# Altium integrated library Diode.IntLib: 67 symbols
Pins are listed as number, name and electrical type; pins without a type are passive.

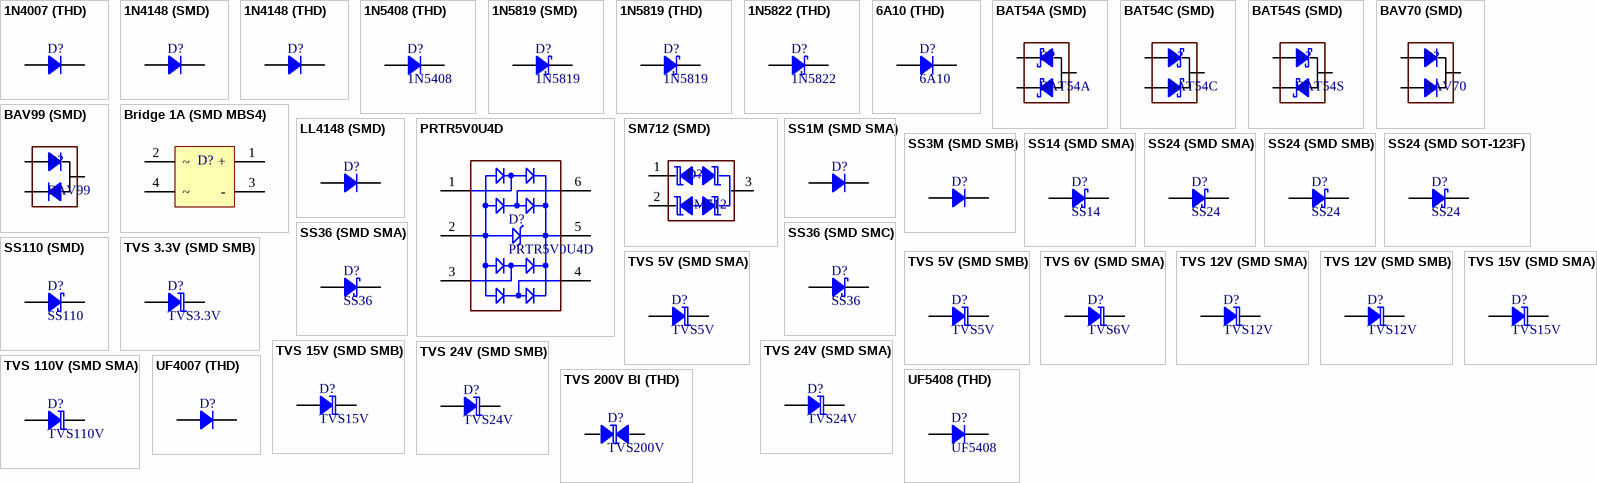
[diagram p0: symbols 1N4007 (THD) to UF5408 (THD)]

## 1N4007 (THD)
designator D?, comment 1N4007  (value not drawn)
Diode Standard 1000V 1A Through Hole DO-204AL (DO-41); PartNumber: 1N4007
footprint DO41 P7.5MM (1N4007)
footprint DO41 P10MM (1N4007)
footprint DO41 STAND P2.5MM (1N4007)
pins: 1, 2

## 1N4148 (SMD)
designator D?, comment 1N4148  (value not drawn)
Diode Standard 75V 200mA Surface Mount SOD-523F; PartNumber: 1N4148WT
footprint SOD-523F (SODFL, 2-Leads, Body 0.80x1.60mm, IPC Medium Density)
pins: 1, 2

## 1N4148 (THD)
designator D?, comment 1N4148  (value not drawn)
Diode Standard 100V 200mA Through Hole DO-35; PartNumber: 1N4148
footprint DO35 P7.5MM (1N4148)
footprint DO35 P5MM (1N4148)
footprint DO35 STAND P2.5MM (1N4148)
pins: 1, 2

## 1N5408 (THD)
designator D?, comment 1N5408
Diode Standard 1000V 3A Through Hole DO-201AD; PartNumber: 1N5408G-T
footprint DO201 P15MM (1N5408)
footprint DO201 P18MM (1N5408)
footprint DO201 STAND P6.5MM (1N5408 and ...)
pins: 1, 2

## 1N5819 (SMD)
designator D?, comment 1N5819
Diode Schottky 40V 1A Surface Mount SOD-123  Speed Fast Recovery =< 500ns, > 200mA (Io); PartNumber: 1N5819HW-7-F
footprint SOD-123 (SOD, 2-Leads, Body 1.55x3.70mm, IPC Medium Density)
pins: 1, 2

## 1N5819 (THD)
designator D?, comment 1N5819
Diode Schottky 40V 1A Through Hole DO-204AL (DO-41) Speed Fast Recovery =< 500ns, > 200mA (Io); PartNumber: 1N5819-E3/54
footprint DO41 P7.5MM (1N4007)
footprint DO41 P10MM (1N4007)
footprint DO41 STAND P2.5MM (1N4007)
pins: 1, 2

## 1N5822 (THD)
designator D?, comment 1N5822
Diode Schottky 40V 3A Through Hole DO-201AD; PartNumber: 1N5822-E3/54
footprint DO201 P15MM (1N5408)
footprint DO201 P18MM (1N5408)
footprint DO201 STAND P6.5MM (1N5408 and ...)
pins: 1, 2

## 6A10 (THD)
designator D?, comment 6A10
Diode Standard 1000V 6A Through Hole R-6; PartNumber: 6A10
footprint R6 (6A10 and ...)
footprint R6 STAND (6A10 and ...)
pins: 1, 2

## BAT54A (SMD)
designator D?, comment BAT54A
Diode Array 1 Pair Series Connection Schottky 30V 200mA Surface Mount TO-236-3, SC-59, SOT-23-3; PartNumber: BAT54A
footprint SOT-23-3 2.9X2.4MM P0.95MM (SOT23, 3-Leads, Body 2.90x2.40mm, Pitch 0.95mm, IPC Medium Density)
pins: 1, 2, 3

## BAT54C (SMD)
designator D?, comment BAT54C
Diode Array 1 Pair Series Connection Schottky 30V 200mA Surface Mount TO-236-3, SC-59, SOT-23-3; PartNumber: BAT54C
footprint SOT-23-3 2.9X2.4MM P0.95MM (SOT23, 3-Leads, Body 2.90x2.40mm, Pitch 0.95mm, IPC Medium Density)
pins: 1, 2, 3

## BAT54S (SMD)
designator D?, comment BAT54S
Diode Array 1 Pair Series Connection Schottky 30V 200mA Surface Mount TO-236-3, SC-59, SOT-23-3; PartNumber: BAT54S
footprint SOT-23-3 2.9X2.4MM P0.95MM (SOT23, 3-Leads, Body 2.90x2.40mm, Pitch 0.95mm, IPC Medium Density)
pins: 1, 2, 3

## BAV70 (SMD)
designator D?, comment BAV70
Diode Array 1 Pair Common Cathode Standard 70V 200mA Surface Mount TO-236-3, SC-59, SOT-23-3; PartNumber: BAV70
footprint SOT-23-3 2.9X2.4MM P0.95MM (SOT23, 3-Leads, Body 2.90x2.40mm, Pitch 0.95mm, IPC Medium Density)
pins: 1, 2, 3

## BAV99 (SMD)
designator D?, comment BAV99
Diode Array 1 Pair Series Connection Standard 70V 200mA Surface Mount TO-236-3, SC-59, SOT-23-3; PartNumber: BAV99
footprint SOT-23-3 2.9X2.4MM P0.95MM (SOT23, 3-Leads, Body 2.90x2.40mm, Pitch 0.95mm, IPC Medium Density)
pins: 1, 2, 3

## Bridge 1A (SMD MBS4)
designator D?
Bridge Rectifiers 0.8A 800V MBS; PartNumber: MB8S-G
footprint DBRG_MBS
pins: 1 +, 2 ~, 3 -, 4 ~

## LL4148 (SMD)
designator D?, comment LL4148  (value not drawn)
Diode Standard 100V 200mA Surface Mount SOD-80; PartNumber: LL4148
footprint SOD-80 (SOD-80 MINI-MELF 3.6X1.6mm, LL-34, LL4148)
pins: 1, 2

## PRTR5V0U4D
designator D?
Clamp  Ipp Tvs Diode Surface Mount 6-TSOP; PartNumber: PRTR5V0U4D,125
footprint SOT-23-6 2.9X2.8MM P0.95MM (SOT23, 6-Leads, Body 2.90x2.80mm, Pitch 0.95mm, IPC Medium Density)
pins: 1 I/O 1, 2 GND, 3 I/O 2, 4 I/O 3, 5 VBUS, 6 I/O 4

## SM712 (SMD)
designator D?, comment SM712
31V, 19V Clamp 19A (8/20µs) Ipp Tvs Diode Surface Mount SOT-23-3; PartNumber: SM712-02HTG
footprint SOT-23-3 2.9X2.4MM P0.95MM (SOT23, 3-Leads, Body 2.90x2.40mm, Pitch 0.95mm, IPC Medium Density)
pins: 1, 2, 3

## SS1M (SMD SMA)
designator D?, comment SS1M  (value not drawn)
Diode Fast 1000V 1A SMB; PartNumber: SS1M
footprint DO-214AC SMA (Molded Diode, 2-Leads, Body 4.30x2.60mm, IPC Medium Density)
pins: 1, 2

## SS3M (SMD SMB)
designator D?, comment SS3M  (value not drawn)
Diode Fast 1000V 3A SMB; PartNumber: SS3M
footprint DO-214AA SMB (Molded Diode, 2-Leads, Body 4.31x3.62mm, IPC Medium Density)
pins: 1, 2

## SS14 (SMD SMA)
designator D?, comment SS14
Diode Schottky 40V 1A Surface Mount SMA (DO-214AC); PartNumber: SS14
footprint DO-214AC SMA (Molded Diode, 2-Leads, Body 4.30x2.60mm, IPC Medium Density)
pins: 1, 2

## SS24 (SMD SMA)
designator D?, comment SS24
Diode Schottky 40V 2A Surface Mount DO-214AC (SMA); PartNumber: SS24S-E3/61T
footprint DO-214AC SMA (Molded Diode, 2-Leads, Body 4.30x2.60mm, IPC Medium Density)
pins: 1, 2

## SS24 (SMD SMB)
designator D?, comment SS24
Diode Schottky 40V 2A Surface Mount DO-214AA (SMB); PartNumber: SS24
footprint DO-214AA SMB (Molded Diode, 2-Leads, Body 4.31x3.62mm, IPC Medium Density)
pins: 1, 2

## SS24 (SMD SOT-123F)
designator D?, comment SS24
Diode Schottky 40V 2A Surface Mount SOD-123F; PartNumber: SS24FL
footprint SOD-123F (SODFL, 2-Leads, Body 1.60x3.50mm, IPC Medium Density)
pins: 1, 2

## SS36 (SMD SMA)
designator D?, comment SS36
Diode Schottky 60V 3A Surface Mount DO-214AC (SMA); PartNumber: SS36-HF
footprint DO-214AC SMA (Molded Diode, 2-Leads, Body 4.30x2.60mm, IPC Medium Density)
pins: 1, 2

## SS36 (SMD SMC)
designator D?, comment SS36
Diode Schottky 60V 3A Surface Mount DO-214AB (SMC); PartNumber: SS36-E3/57T
footprint DO-214AB SMC (Molded Diode, 2-Leads, Body 6.85x5.90mm, IPC Medium Density)
pins: 1, 2

## SS110 (SMD)
designator D?, comment SS110
Diode Schottky 100V 1A Surface Mount DO-214AC (SMA); PartNumber: SS110-TP
footprint DO-214AC SMA (Molded Diode, 2-Leads, Body 4.30x2.60mm, IPC Medium Density)
pins: 1, 2

## TVS 3.3V (SMD SMB)
designator D?, comment TVS3.3V
10.3V Clamp 200A (8/20µs) Ipp Tvs Diode Surface Mount DO-214AA (SMBJ); PartNumber: SMBJ3V3-E3/52
footprint DO-214AA SMB (Molded Diode, 2-Leads, Body 4.31x3.62mm, IPC Medium Density)
pins: 1, 2

## TVS 5V (SMD SMA)
designator D?, comment TVS5V
9.2V Clamp 43.5A Ipp Tvs Diode Surface Mount DO-214AC (SMA); PartNumber: SMAJ5.0A
footprint DO-214AC SMA (Molded Diode, 2-Leads, Body 4.30x2.60mm, IPC Medium Density)
pins: 1, 2

## TVS 5V (SMD SMB)
designator D?, comment TVS5V
9.2V Clamp 65.3A Ipp Tvs Diode Surface Mount DO-214AA (SMBJ); PartNumber: SMBJ5.0A
footprint DO-214AA SMB (Molded Diode, 2-Leads, Body 4.31x3.62mm, IPC Medium Density)
pins: 1, 2

## TVS 6V (SMD SMA)
designator D?, comment TVS6V
10.3V Clamp 38.8A Ipp Tvs Diode Surface Mount DO-214AC (SMA); PartNumber: SMAJ6.0A
footprint DO-214AC SMA (Molded Diode, 2-Leads, Body 4.30x2.60mm, IPC Medium Density)
pins: 1, 2

## TVS 12V (SMD SMA)
designator D?, comment TVS12V
19.9V Clamp 20.1A Ipp Tvs Diode Surface Mount DO-214AC (SMA); PartNumber: SMAJ12A
footprint DO-214AC SMA (Molded Diode, 2-Leads, Body 4.30x2.60mm, IPC Medium Density)
pins: 1, 2

## TVS 12V (SMD SMB)
designator D?, comment TVS12V
19.9V Clamp 30.2A Ipp Tvs Diode Surface Mount DO-214AA (SMBJ); PartNumber: SMBJ12CA
footprint DO-214AA SMB (Molded Diode, 2-Leads, Body 4.31x3.62mm, IPC Medium Density)
pins: 1, 2

## TVS 15V (SMD SMA)
designator D?, comment TVS15V
24.4V Clamp 16.4A Ipp Tvs Diode Surface Mount DO-214AC (SMA); PartNumber: SMAJ15A
footprint DO-214AC SMA (Molded Diode, 2-Leads, Body 4.30x2.60mm, IPC Medium Density)
pins: 1, 2

## TVS 15V (SMD SMB)
designator D?, comment TVS15V
24.4V Clamp 24.6A Ipp Tvs Diode Surface Mount DO-214AA (SMBJ); PartNumber: SMBJ15A
footprint DO-214AA SMB (Molded Diode, 2-Leads, Body 4.31x3.62mm, IPC Medium Density)
pins: 1, 2

## TVS 24V (SMD SMA)
designator D?, comment TVS24V
38.9V Clamp 10.3A Ipp Tvs Diode Surface Mount DO-214AC (SMA); PartNumber: SMAJ24A
footprint DO-214AC SMA (Molded Diode, 2-Leads, Body 4.30x2.60mm, IPC Medium Density)
pins: 1, 2

## TVS 24V (SMD SMB)
designator D?, comment TVS24V
38.9V Clamp 15.5A Ipp Tvs Diode Surface Mount DO-214AA (SMBJ); PartNumber: SMBJ24A
footprint DO-214AA SMB (Molded Diode, 2-Leads, Body 4.31x3.62mm, IPC Medium Density)
pins: 1, 2

## TVS 110V (SMD SMA)
designator D?, comment TVS110V
tvs 110v; PartNumber: SZ1SMA110AT3G
footprint DO-214AC SMA (Molded Diode, 2-Leads, Body 4.30x2.60mm, IPC Medium Density)
pins: 1, 2

## TVS 200V BI (THD)
designator D?, comment TVS200V
275V Clamp 2.2A Ipp Tvs Diode; PartNumber: P6KE200CA
footprint DO15 P12.75MM
pins: 1, 2

## UF4007 (THD)
designator D?, comment UF4007  (value not drawn)
Diode Standard 1000V 1A Through Hole DO-204AL (DO-41); PartNumber: UF4007
footprint DO41 P7.5MM (1N4007)
footprint DO41 P10MM (1N4007)
footprint DO41 STAND P2.5MM (1N4007)
pins: 1, 2

## UF5408 (THD)
designator D?, comment UF5408
Diode Standard 1000V 3A Through Hole DO-201AD Reverse Recovery Time (trr) 75ns; PartNumber: UF5408-E3/54
footprint DO201 P15MM (1N5408)
footprint DO201 P18MM (1N5408)
footprint DO201 STAND P6.5MM (1N5408 and ...)
pins: 1, 2

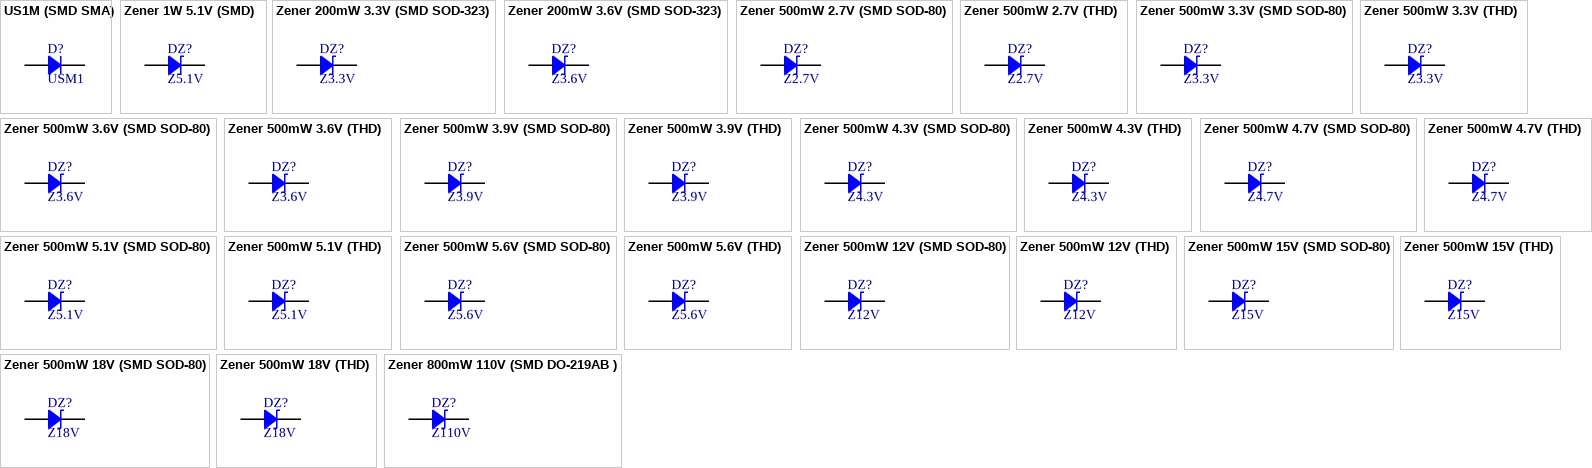
[diagram p1: symbols US1M (SMD SMA) to Zener 800mW 110V (SMD DO-219AB )]

## US1M (SMD SMA)
designator D?, comment USM1
Diode Standard 1000V 1A Surface Mount SMA; PartNumber: US1M-13-F
footprint DO-214AC SMA (Molded Diode, 2-Leads, Body 4.30x2.60mm, IPC Medium Density)
pins: 1, 2

## Zener 1W 5.1V (SMD)
designator DZ?, comment Z5.1V
Zener Diode; PartNumber: ZMY5V1-GS08
footprint SOD-80 (SOD-80 MINI-MELF 3.6X1.6mm, LL-34, LL4148)
pins: 1, 2

## Zener 200mW 3.3V (SMD SOD-323)
designator DZ?, comment Z3.3V
Zener Diode; PartNumber: BZX384B3V3-G
footprint SOD-323 (SOD, 2-Leads, Body 1.25x2.50mm, IPC Medium Density)
pins: 1, 2

## Zener 200mW 3.6V (SMD SOD-323)
designator DZ?, comment Z3.6V
Zener Diode; PartNumber: BZX384B3V6-G
footprint SOD-323 (SOD, 2-Leads, Body 1.25x2.50mm, IPC Medium Density)
pins: 1, 2

## Zener 500mW 2.7V (SMD SOD-80)
designator DZ?, comment Z2.7V
Zener Diode; PartNumber: TZMC2V7-GS08
footprint SOD-80 (SOD-80 MINI-MELF 3.6X1.6mm, LL-34, LL4148)
pins: 1, 2

## Zener 500mW 2.7V (THD)
designator DZ?, comment Z2.7V
Zener Diode 500mW ±6% Through Hole DO-35; PartNumber: BZX55C2V7-TR
footprint DO35 P5MM (1N4148)
footprint DO35 P7.5MM (1N4148)
footprint DO35 STAND P2.5MM (1N4148)
pins: 1, 2

## Zener 500mW 3.3V (SMD SOD-80)
designator DZ?, comment Z3.3V
Zener Diode; PartNumber: TZMC3V3-GS08
footprint SOD-80 (SOD-80 MINI-MELF 3.6X1.6mm, LL-34, LL4148)
pins: 1, 2

## Zener 500mW 3.3V (THD)
designator DZ?, comment Z3.3V
Zener Diode 500mW ±6% Through Hole DO-35; PartNumber: BZX55C3V3-TR
footprint DO35 P5MM (1N4148)
footprint DO35 P7.5MM (1N4148)
footprint DO35 STAND P2.5MM (1N4148)
pins: 1, 2

## Zener 500mW 3.6V (SMD SOD-80)
designator DZ?, comment Z3.6V
Zener Diode; PartNumber: TZMC3V6-GS08
footprint SOD-80 (SOD-80 MINI-MELF 3.6X1.6mm, LL-34, LL4148)
pins: 1, 2

## Zener 500mW 3.6V (THD)
designator DZ?, comment Z3.6V
Zener Diode  500mW ±6% Through Hole DO-35; PartNumber: BZX55C3V6-TR
footprint DO35 P5MM (1N4148)
footprint DO35 P7.5MM (1N4148)
footprint DO35 STAND P2.5MM (1N4148)
pins: 1, 2

## Zener 500mW 3.9V (SMD SOD-80)
designator DZ?, comment Z3.9V
Zener Diode; PartNumber: TZMC3V9-GS08
footprint SOD-80 (SOD-80 MINI-MELF 3.6X1.6mm, LL-34, LL4148)
pins: 1, 2

## Zener 500mW 3.9V (THD)
designator DZ?, comment Z3.9V
Zener Diode 500mW ±6% Through Hole DO-35; PartNumber: BZX55C3V9-TR
footprint DO35 P5MM (1N4148)
footprint DO35 P7.5MM (1N4148)
footprint DO35 STAND P2.5MM (1N4148)
pins: 1, 2

## Zener 500mW 4.3V (SMD SOD-80)
designator DZ?, comment Z4.3V
Zener Diode; PartNumber: TZMC4V3-GS08
footprint SOD-80 (SOD-80 MINI-MELF 3.6X1.6mm, LL-34, LL4148)
pins: 1, 2

## Zener 500mW 4.3V (THD)
designator DZ?, comment Z4.3V
Zener Diode  500mW ±6% Through Hole DO-35; PartNumber: BZX55C4V3-TR
footprint DO35 P5MM (1N4148)
footprint DO35 P7.5MM (1N4148)
footprint DO35 STAND P2.5MM (1N4148)
pins: 1, 2

## Zener 500mW 4.7V (SMD SOD-80)
designator DZ?, comment Z4.7V
Zener Diode; PartNumber: TZMC4V7-GS08
footprint SOD-80 (SOD-80 MINI-MELF 3.6X1.6mm, LL-34, LL4148)
pins: 1, 2

## Zener 500mW 4.7V (THD)
designator DZ?, comment Z4.7V
Zener Diode 500mW ±6% Through Hole DO-35; PartNumber: BZX55C4V7-TR
footprint DO35 P5MM (1N4148)
footprint DO35 P7.5MM (1N4148)
footprint DO35 STAND P2.5MM (1N4148)
pins: 1, 2

## Zener 500mW 5.1V (SMD SOD-80)
designator DZ?, comment Z5.1V
Zener Diode; PartNumber: TZMC5V1-GS08
footprint SOD-80 (SOD-80 MINI-MELF 3.6X1.6mm, LL-34, LL4148)
pins: 1, 2

## Zener 500mW 5.1V (THD)
designator DZ?, comment Z5.1V
Zener Diode 500mW ±6% Through Hole DO-35; PartNumber: BZX55C5V1-TR
footprint DO35 P5MM (1N4148)
footprint DO35 P7.5MM (1N4148)
footprint DO35 STAND P2.5MM (1N4148)
pins: 1, 2

## Zener 500mW 5.6V (SMD SOD-80)
designator DZ?, comment Z5.6V
Zener Diode; PartNumber: TZMC5V6-GS08
footprint SOD-80 (SOD-80 MINI-MELF 3.6X1.6mm, LL-34, LL4148)
pins: 1, 2

## Zener 500mW 5.6V (THD)
designator DZ?, comment Z5.6V
Zener Diode 500mW ±6% Through Hole DO-35; PartNumber: BZX55C5V6-TR
footprint DO35 P5MM (1N4148)
footprint DO35 P7.5MM (1N4148)
footprint DO35 STAND P2.5MM (1N4148)
pins: 1, 2

## Zener 500mW 12V (SMD SOD-80)
designator DZ?, comment Z12V
Zener Diode; PartNumber: TZMC12-GS08
footprint SOD-80 (SOD-80 MINI-MELF 3.6X1.6mm, LL-34, LL4148)
pins: 1, 2

## Zener 500mW 12V (THD)
designator DZ?, comment Z12V
Zener Diode 500mW ±6% Through Hole DO-35; PartNumber: BZX55C12-TR
footprint DO35 P5MM (1N4148)
footprint DO35 P7.5MM (1N4148)
footprint DO35 STAND P2.5MM (1N4148)
pins: 1, 2

## Zener 500mW 15V (SMD SOD-80)
designator DZ?, comment Z15V
Zener Diode; PartNumber: TZMC15-GS08
footprint SOD-80 (SOD-80 MINI-MELF 3.6X1.6mm, LL-34, LL4148)
pins: 1, 2

## Zener 500mW 15V (THD)
designator DZ?, comment Z15V
Zener Diode 500mW ±6% Through Hole DO-35; PartNumber: BZX55C15-TR
footprint DO35 P5MM (1N4148)
footprint DO35 P7.5MM (1N4148)
footprint DO35 STAND P2.5MM (1N4148)
pins: 1, 2

## Zener 500mW 18V (SMD SOD-80)
designator DZ?, comment Z18V
Zener Diode; PartNumber: TZMC18-GS08
footprint SOD-80 (SOD-80 MINI-MELF 3.6X1.6mm, LL-34, LL4148)
pins: 1, 2

## Zener 500mW 18V (THD)
designator DZ?, comment Z18V
Zener Diode 500mW ±6% Through Hole DO-35; PartNumber: BZX55C18-TR
footprint DO35 P5MM (1N4148)
footprint DO35 P7.5MM (1N4148)
footprint DO35 STAND P2.5MM (1N4148)
pins: 1, 2

## Zener 800mW 110V (SMD DO-219AB )
designator DZ?, comment Z110V
Zener Diode; PartNumber: BZD27C110P-E3-08
footprint DO-219AB (Molded Diode, 2-Leads, Body 3.90x1.90mm, IPC Medium Density)
pins: 1, 2